# Altium footprint library Модули.PcbLib: 29 footprints (part 1 of 2)
Each footprint in its own frame and in the unit in brackets; x right, y up, seen from the top. Pads: shape width x height; smd on the part's side, far side on the other; paste and mask are expansions set on the pad; w line width, h text height; cw(c..) or ccw(c..) is an arc to the next point about the centre after c.
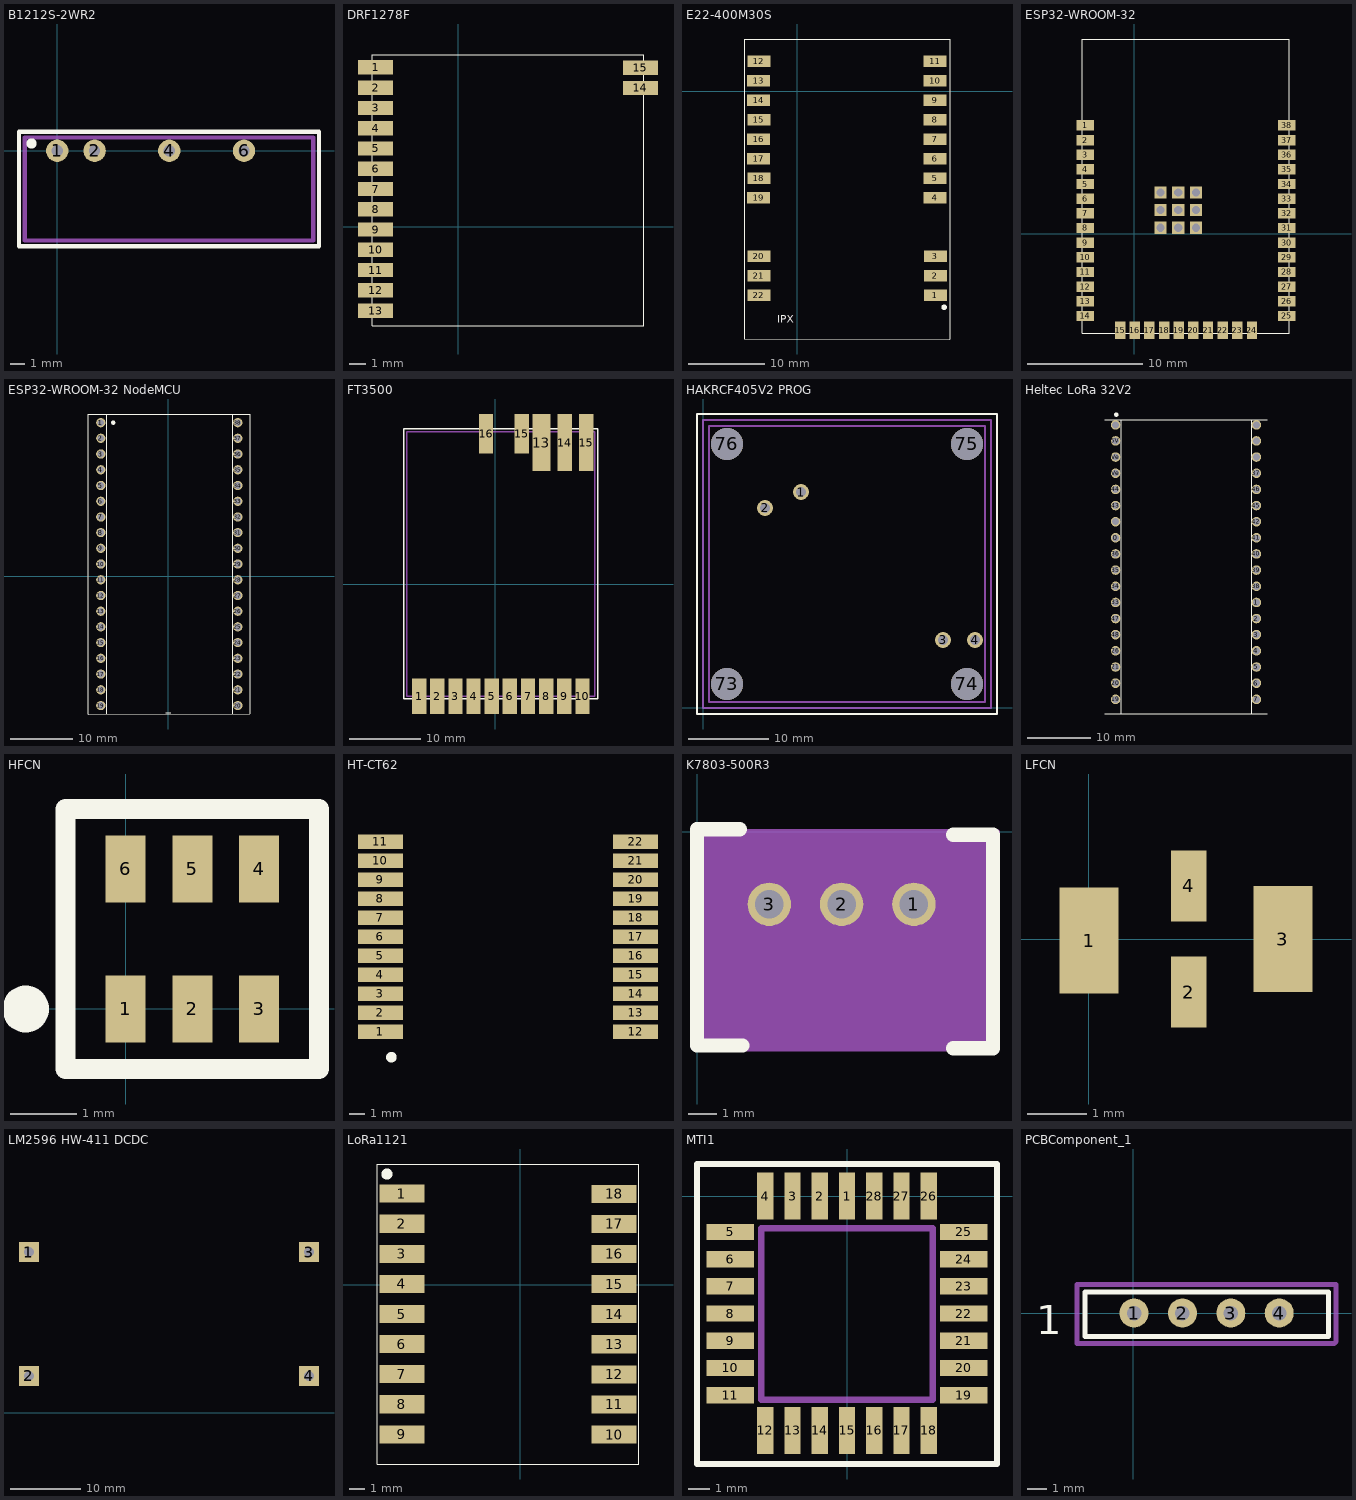
[diagram p0: the footprints below, top view; thin cyan lines are the x and y axes]

## B1212S-2WR2 [mil]
pads (4):
  round 60 hole 30: 1(0,0) 2(100,0) 4(300,0) 6(500,0)
Top Overlay:
  circle w19.68: c-68.9,19.68 r3.94
  lines w11.81: -102.36,-255.91 -102.36,51.18 700.79,51.18 700.79,-255.91 -102.36,-255.91
Mechanical 15:
  lines w11.81: -86.61,-240.16 -86.61,35.43 685.04,35.43 685.04,-240.16 -86.61,-240.16
3D body: height 393.7, standoff 0, extent -86.61,-240.16 685.04,35.43

## DRF1278F [mm]
pads (15):
  rect 2.2x0.9 / inner round 0 / far side round 0 all layers, no hole: 1(-5.17,10) 2(-5.17,8.73) 3(-5.17,7.46) 4(-5.17,6.19) 5(-5.17,4.92) 6(-5.17,3.65) 7(-5.17,2.38) 8(-5.17,1.11) 9(-5.17,-0.16) 10(-5.17,-1.43) 11(-5.17,-2.7) 12(-5.17,-3.97) 13(-5.17,-5.24) 14(11.43,8.71) 15(11.43,9.98)
Top Overlay:
  lines w0.05: -5.37,-6.2 11.63,-6.2 11.63,10.8 -5.37,10.8 -5.37,-6.2

## E22-400M30S [mm]
pads (22):
  rect 3x1.5 smd: 1(18.006,-26.57) 2(18.01,-24.03) 3(18.006,-21.49) 4(17.996,-13.89) 5(18,-11.35) 6(17.996,-8.81) 7(17.996,-6.27) 8(18,-3.73) 9(17.996,-1.19) 10(17.996,1.35) 11(18,3.89) 12(-5,3.89) 13(-5.004,1.35) 14(-5.004,-1.19) 15(-5,-3.73) 16(-5.004,-6.27) 17(-5.004,-8.81) 18(-5,-11.35) 19(-5.004,-13.89) 20(-4.994,-21.49) 21(-4.99,-24.03) 22(-4.994,-26.57)
Top Overlay:
  circle w0.4: c19.16,-28.16 r0.161
  lines w0.1: -6.9,-32.3 19.9,-32.3 19.9,6.8 -6.9,6.8 -6.9,-32.3
  text "IPX" at -2.62,-30.49 h1.7
3D body: height 1, standoff 0, extent -5.5,-32 18.5,6.5
3D body: height 3.9, standoff 0, extent -3,-31 16,5.5

## ESP32-WROOM-32 [mm]
pads (47):
  rect 1.5x0.9 / inner round 0 / far side round 0 all layers, no hole: 1(-4.25,9.4) 2(-4.25,8.13) 3(-4.25,6.86) 4(-4.25,5.59) 5(-4.25,4.32) 6(-4.25,3.05) 7(-4.25,1.78) 8(-4.25,0.51) 9(-4.25,-0.76) 10(-4.25,-2.03) 11(-4.25,-3.3) 12(-4.25,-4.57) 13(-4.248,-5.842) 14(-4.248,-7.112) 25(13.232,-7.112) 26(13.232,-5.842) 27(13.23,-4.57) 28(13.23,-3.3) 29(13.23,-2.03) 30(13.23,-0.76) 31(13.23,0.51) 32(13.23,1.78) 33(13.23,3.05) 34(13.23,4.32) 35(13.23,5.59) 36(13.23,6.86) 37(13.23,8.13) 38(13.23,9.4)
  rect 0.9x1.5 / inner round 0 / far side round 0 all layers, no hole: 15(-1.22,-8.36) 16(0.05,-8.36) 17(1.32,-8.36) 18(2.59,-8.36) 19(3.86,-8.36) 20(5.13,-8.36) 21(6.4,-8.36) 22(7.67,-8.36) 23(8.94,-8.36) 24(10.21,-8.36)
  rect 1.05x1.05 / inner round 0 / far side rect 1.05x1.05 hole 0.7: ""(2.296,0.531) ""(2.296,2.056) ""(2.296,3.581) ""(3.821,0.531) ""(3.821,2.056) ""(3.821,3.581) ""(5.346,0.531) ""(5.346,2.056) ""(5.346,3.581)
Top Overlay:
  lines w0.05: -4.5,-8.61 -4.5,16.89 13.46,16.89 13.46,-8.61 -4.5,-8.61

## ESP32-WROOM-32 NodeMCU [mm]
pads (38):
  round 1.5 hole 1.1: 1(-10.9,24.8) 2(-10.9,22.28) 3(-10.9,19.74) 4(-10.9,17.2) 5(-10.9,14.66) 6(-10.9,12.12) 7(-10.9,9.59) 8(-10.9,7.07) 9(-10.9,4.53) 10(-10.9,1.99) 11(-10.9,-0.55) 12(-10.9,-3.09) 13(-10.9,-5.62) 14(-10.9,-8.14) 15(-10.9,-10.68) 16(-10.9,-13.22) 17(-10.9,-15.76) 18(-10.9,-18.3) 19(-10.9,-20.84) 20(11.2,-20.84) 21(11.2,-18.3) 22(11.2,-15.76) 23(11.2,-13.22) 24(11.2,-10.68) 25(11.2,-8.14) 26(11.2,-5.62) 27(11.2,-3.09) 28(11.2,-0.55) 29(11.2,1.99) 30(11.2,4.53) 31(11.2,7.07) 32(11.2,9.59) 33(11.2,12.12) 34(11.2,14.66) 35(11.2,17.2) 36(11.2,19.74) 37(11.2,22.28) 38(11.2,24.8)
Top Overlay:
  circle w0.5: c-8.9,24.8 r0.1
  lines w0.1: -10,-22.2 -10,26.2 ; -0.4,-22 0.4,-22 ; 10.3,-22.2 10.3,26.2 ; -12.9,-22.2 -12.9,26.2 13.1,26.2 13.1,-22.2 -12.9,-22.2
3D body: height 7, standoff 0, extent -12.65,-22 12.85,26

## FT3500 [mm]
pads (15):
  rect 2x5 smd: 1(-10.68,-15.69) 2(-8.14,-15.69) 3(-5.61,-15.69) 4(-3.06,-15.69) 5(-0.52,-15.69) 6(2.02,-15.69) 7(4.56,-15.69) 8(7.09,-15.69) 9(9.64,-15.69) 10(12.18,-15.69)
  rect 2.5x8 smd: 13(6.44,19.81)
  rect 2x8 smd: 14(9.69,19.81) 15(12.69,19.81)
  rect 2x5.5 smd: 15(3.69,21.06) 16(-1.31,21.06)
Top Overlay:
  lines w0.2: -12.82,-16.09 -12.82,21.71 14.31,21.71 14.31,-16.09 -12.82,-16.09
Mechanical 15:
  lines w0.2: -12.4,-15.69 13.89,-15.69 13.89,21.31 -12.4,21.31 -12.4,-15.69

## HAKRCF405V2 PROG [mm]
pads (8):
  round 2 hole 1.2: 1(12.25,27) 2(7.75,25) 3(30,8.5) 4(34,8.5)
  round 4 hole 4 unplated: 73(3,3) 74(33,3) 75(33,33) 76(3,33)
Top Overlay:
  lines w0.3: -0.75,-0.75 -0.75,36.75 36.75,36.75 36.75,-0.75 -0.75,-0.75
Mechanical 15:
  lines w0.3: 0,0 0,36 36,36 36,0 0,0 ; 0.75,0.75 35.25,0.75 35.25,35.25 0.75,35.25 0.75,0.75

## Heltec LoRa 32V2 [mm]
pads (36):
  round 1.5 hole 1.1: 0(15.4,45.67) 1(37.5,35.51) 2(37.5,32.98) 3(37.5,30.46) 3V3(37.5,58.34) 3V3(37.5,60.88) 4(37.5,27.92) 5(37.5,25.38) 5V(15.4,60.88) 6(37.5,22.84) 7(37.5,20.3) 19(15.4,20.3) 20(15.4,22.84) 21(15.4,25.38) 26(15.4,27.92) 33(15.4,35.51) 34(15.4,38.05) 35(15.4,40.59) 36(15.4,43.13) 37(37.5,55.8) 38(37.5,38.05) 39(37.5,40.59) 40(37.5,43.13) 41(37.5,45.67) 42(37.5,48.19) 43(15.4,50.72) 44(15.4,53.26) 45(37.5,50.72) 46(37.5,53.26) 47(15.4,32.98) 48(15.4,30.46) GND(15.4,63.4) GND(37.5,63.4) RST(15.4,48.19) Ve(15.4,55.8) Ve(15.4,58.34)
Top Overlay:
  circle w0.5: c15.5,65 r0.1
  lines w0.1: 13.7,18 39.2,18 ; 13.7,64.2 39.2,64.2 ; 16.2,18 16.2,64.2 ; 36.7,18 36.7,64.2
3D body: height 7, standoff 0, extent 13.7,14.9 39.2,66.9

## HFCN [mm]
pads (6):
  rect 0.6x1 smd: 1(0,0) 2(1,0) 3(2,0) 4(2,2.1) 5(1,2.1) 6(0,2.1)
Top Overlay:
  circle w0.5: c-1.5,0 r0.1
  lines w0.3: -0.9,-0.9 2.9,-0.9 2.9,3 -0.9,3 -0.9,-0.9
3D body: height 0.9, standoff 0, extent -0.6,0.2 2.6,1.8

## HT-CT62 [mm]
pads (22):
  rect 3x1 / inner round 0 / far side round 0 all layers, no hole: 1(12.27,5.7) 2(12.27,6.97) 3(12.27,8.24) 4(12.27,9.51) 5(12.27,10.78) 6(12.27,12.05) 7(12.27,13.32) 8(12.27,14.59) 9(12.27,15.86) 10(12.27,17.13) 11(12.27,18.4) 12(29.32,5.7) 13(29.32,6.97) 14(29.32,8.24) 15(29.32,9.51) 16(29.32,10.78) 17(29.32,12.05) 18(29.32,13.32) 19(29.32,14.59) 20(29.32,15.86) 21(29.32,17.13) 22(29.32,18.4)
Top Overlay:
  circle w0.5: c13,4 r0.1
3D body: height 2.8, standoff 0, extent 12.02,3.15 29.81,20.95

## K7803-500R3 [mil]
pads (3):
  round 60 hole 39.37: 1(300,-100) 2(200,-100) 3(100,-100)
Top Overlay:
  lines w19.68: 59.06,3.94 0,3.94 0,-295.28 62.99,-295.28 ; 354.33,-299.21 409.45,-299.21 409.45,-3.94 354.33,-3.94
Mechanical 1:
  cavity: 0,0 413.39,0 413.39,-299.21 0,-299.21
  lines w7.87: 0,-300 0,0 415,0 415,-300 0,-300
3D body: height 400, standoff 0, extent 0,-299.21 413.39,0

## LFCN [mm]
pads (4):
  rect 1x1.8 smd: 1(0.009,-0.027) 3(3.3,0)
  rect 0.6x1.2 smd: 2(1.7,-0.9) 4(1.7,0.9)
3D body: height 0.9, standoff 0, extent 0.1,-0.8 3.3,0.8

## LM2596 HW-411 DCDC [mm]
pads (4):
  rect 2.8x2.8 hole 1.4: 1(5.12,22.7) 2(5.12,5.2) 3(44.72,22.7) 4(44.72,5.2)
3D body: height 0.25, standoff 0, extent 3.32,3.4 46.52,24.5

## LoRa1121 [mm]
pads (18):
  rect 3x1.2 smd: 1(-7.85,6.04) 2(-7.85,4.04) 3(-7.85,2.04) 4(-7.85,0.04) 5(-7.85,-1.96) 6(-7.85,-3.96) 7(-7.85,-5.96) 8(-7.85,-7.96) 9(-7.85,-9.96) 10(6.25,-9.97) 11(6.25,-7.97) 12(6.25,-5.97) 13(6.25,-3.97) 14(6.25,-1.97) 15(6.25,0.03) 16(6.25,2.03) 17(6.25,4.03) 18(6.25,6.03)
Top Overlay:
  circle w0.5: c-8.85,7.34 r0.114
  lines w0.05: -9.5,8.01 -9.5,-11.93 7.9,-11.93 7.9,8.01 -9.49,8.01
3D body: height 2.8, standoff 0, extent -8.3,-11.82 6.7,7.9

## MTI1 [mm]
pads (28):
  rect 0.76x2.2 smd: 1(0,0) 2(-1.27,0) 3(-2.54,0) 4(-3.81,0) 12(-3.81,-10.93) 13(-2.54,-10.93) 14(-1.27,-10.93) 15(0,-10.93) 16(1.27,-10.93) 17(2.54,-10.93) 18(3.81,-10.93) 26(3.81,0) 27(2.54,0) 28(1.27,0)
  rect 2.2x0.76 smd: 5(-5.45,-1.67) 6(-5.45,-2.94) 7(-5.45,-4.21) 8(-5.45,-5.48) 9(-5.45,-6.75) 10(-5.45,-8.02) 11(-5.45,-9.29) 19(5.45,-9.29) 20(5.45,-8.02) 21(5.45,-6.75) 22(5.45,-5.48) 23(5.45,-4.21) 24(5.45,-2.94) 25(5.45,-1.67)
Top Overlay:
  lines w0.3: -7,-12.5 -7,1.5 7,1.5 7,-12.5 -7,-12.5
Mechanical 15:
  lines w0.3: -4,-9.5 4,-9.5 4,-1.5 -4,-1.5 -4,-9.5
3D body: height 7, standoff 0, extent -5.5,-11 5.5,0

## PCBComponent_1 [mil]
pads (4):
  round 60 hole 30: 1(1.43,0.79) 2(101.43,0.79) 3(201.43,0.79) 4(301.43,0.79)
Top Overlay:
  lines w10: -99.75,-47.63 -99.75,44.1 403.01,44.1 403.01,-47.63 -99.75,-47.63
  text "1" at -201.17,-42.75 h60
Mechanical 15:
  lines w10: -116.68,-62.2 414.82,-62.2 418.75,-58.26 418.75,59.85 -116.68,59.85 -116.68,-62.2
3D body: height 413.39, standoff 0, extent -99.75,-47.63 403.01,44.1